# EAGLE library part ESP8266 (library freBotLib)
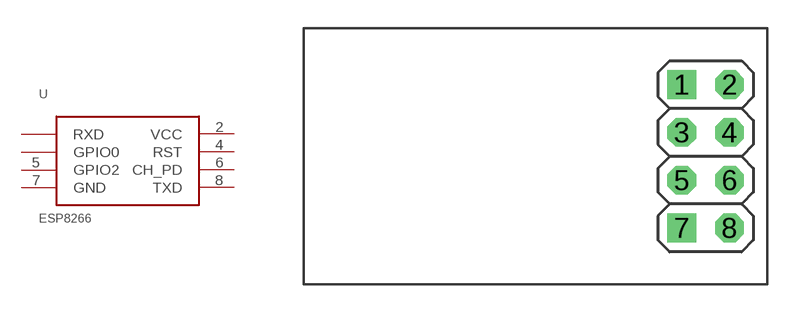
[diagram p4: symbol with the pads of ESP8266; footprint ESP8266]

Designator prefix -

## ESP8266  [ESP8266]
1  RXD
2  VCC
3  GPIO0
4  RST
5  GPIO2
6  CH_PD
7  GND
8  TXD

## Footprint ESP8266 (pad centres in mm)
drill 1.016 square: 1 -1.27,3.81; 7 -1.27,-3.81
drill 1.016 octagon: 2 1.27,3.81; 3 -1.27,1.27; 4 1.27,1.27; 5 -1.27,-1.27; 6 1.27,-1.27; 8 1.27,-3.81